# Altium footprint library TPN19008QM.PcbLib: 1 footprints
Each footprint in its own frame and in the unit in brackets; x right, y up, seen from the top. Pads: shape width x height; smd on the part's side, far side on the other; paste and mask are expansions set on the pad; w line width, h text height; cw(c..) or ccw(c..) is an arc to the next point about the centre after c.
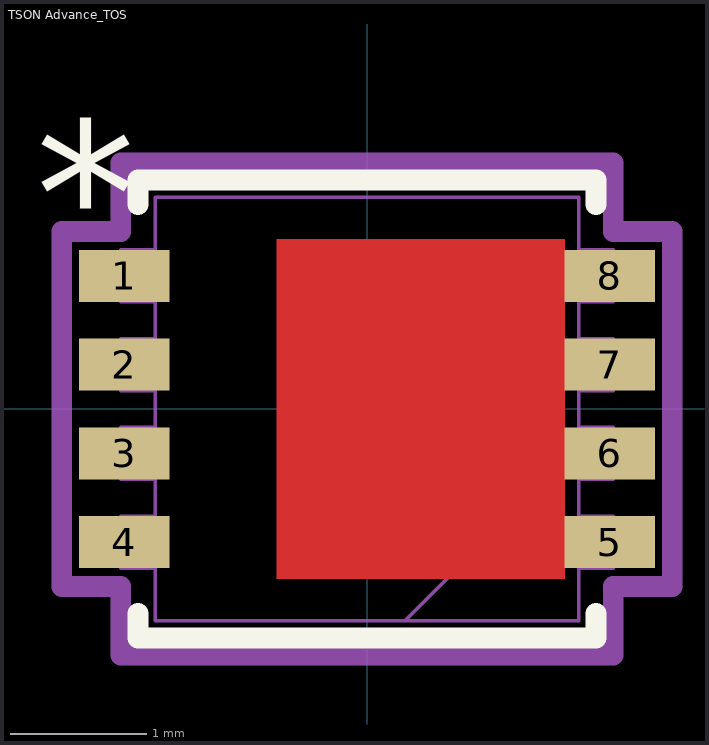
[diagram p0: the footprint, top view; thin cyan lines are the x and y axes]

## TSON Advance_TOS [mil]
pads (8):
  rect 26x15 smd paste+0 mask+0: 1(-70,38.39) 2(-70,12.8) 3(-70,-12.8) 4(-70,-38.39) 5(70,-38.39) 6(70,-12.8) 7(70,12.8) 8(70,38.39)
Top Layer:
  region: 57,49 57,-49 -26,-49 -26,49
Top Overlay:
  lines w6: -66,-58.99 -66,-66 25,-66 ; -66,58.99 -66,66 -20.6,66 66,66 66,58.99 ; 20.6,-66 66,-66 66,-58.99
  text "*" at -95.5,41.18 h50
Top Paste:
  region: -26,-49 -26,49 57,49 57,-49
Top Solder:
  region: 57,49 57,-49 -26,-49 -26,49
Mechanical 13:
  lines w1: 11,-61 61,-11 ; -71,-45.89 -71,-30.89 -61,-30.89 -61,-45.89 -71,-45.89 ; -71,-20.3 -71,-5.3 -61,-5.3 -61,-20.3 -71,-20.3 ; -71,5.3 -71,20.3 -61,20.3 -61,5.3 -71,5.3 ; -71,30.89 -71,45.89 -61,45.89 -61,30.89 -71,30.89 ; -61,-61 -61,61 61,61 61,-61 -61,-61 ; 61,-45.89 61,-30.89 71,-30.89 71,-45.89 61,-45.89 ; 61,-20.3 61,-5.3 71,-5.3 71,-20.3 61,-20.3 ; 61,5.3 61,20.3 71,20.3 71,5.3 61,5.3 ; 61,30.89 61,45.89 71,45.89 71,30.89 61,30.89
  text "*" at -95.5,41.18 h50
Mechanical 15:
  lines w6: -88,-51.18 -71,-51.18 -71,-71 -12.8,-71 12.8,-71 71,-71 71,-51.18 88,-51.18 88,51.18 71,51.18 71,71 -12.8,71 -71,71 -71,51.18 -88,51.18 -88,-51.18
3D body "TSON Advance.STEP": height 33.46, standoff 0, extent -64.96,-64.96 64.96,64.96